# EAGLE library part MC14555BCP (library User-Submitted)
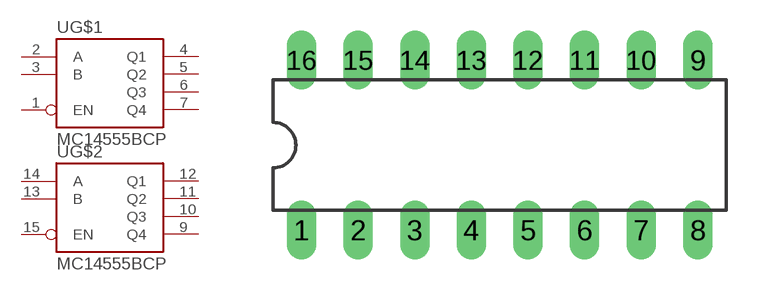
[diagram p18: symbol with the pads of DIL16; footprint DIL16]

Designator prefix -; gates G$1=MC14555B G$2=MC14555B

## MC14555BCP  [DIL16]
1  G$1:EN  in
2  G$1:A  in
3  G$1:B  in
4  G$1:Q1  out
5  G$1:Q2  out
6  G$1:Q3  out
7  G$1:Q4  out
9  G$2:Q4  out
10  G$2:Q3  out
11  G$2:Q2  out
12  G$2:Q1  out
13  G$2:B  in
14  G$2:A  in
15  G$2:EN  in

## Footprint DIL16 (pad centres in mm)
Dual In Line Package
drill 0.813 long: 1 -8.89,-3.81; 2 -6.35,-3.81; 3 -3.81,-3.81; 4 -1.27,-3.81; 5 1.27,-3.81; 6 3.81,-3.81; 7 6.35,-3.81; 8 8.89,-3.81; 9 8.89,3.81; 10 6.35,3.81; 11 3.81,3.81; 12 1.27,3.81; 13 -1.27,3.81; 14 -3.81,3.81; 15 -6.35,3.81; 16 -8.89,3.81